# EAGLE library part 4009D (library EW_IC_74_Logic)
Hex Inverter. Category: Gates Manufacturer: Generic
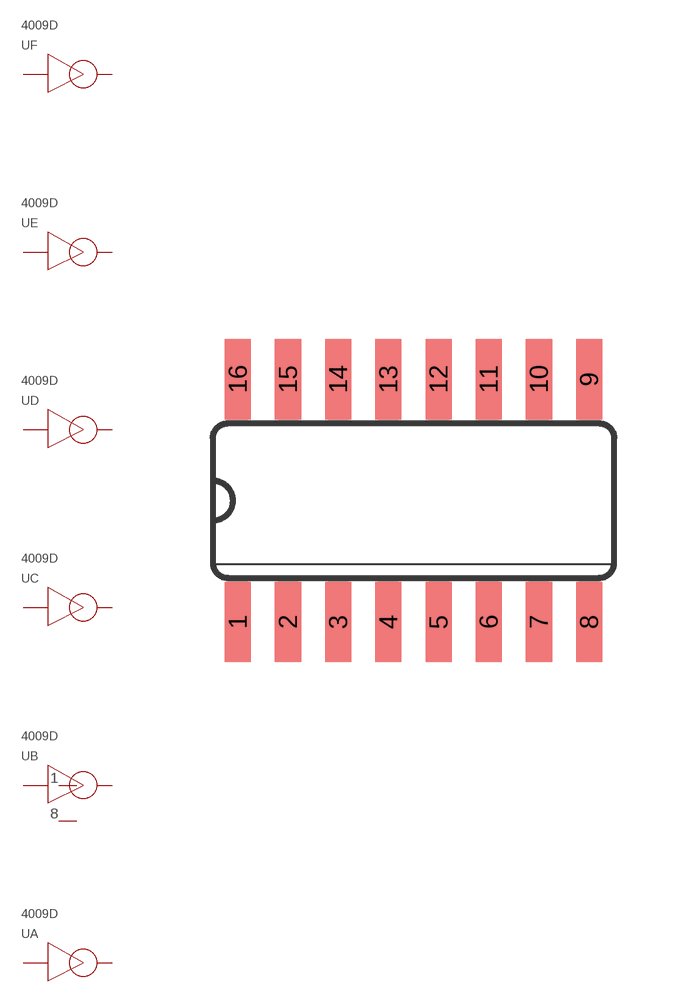
[diagram p338: symbol with the pads of SO16; footprint SO16]

Designator prefix U; gates A=INVERTER B=INVERTER C=INVERTER D=INVERTER E=INVERTER F=INVERTER COM=4009D_COMMON

## 4009D  [SO16]
1  COM:VCC  pwr
2  A:OUT  pwr
3  A:IN  pwr
4  B:OUT  pwr
5  B:IN  pwr
6  C:OUT  pwr
7  C:IN  pwr
8  COM:GND  pwr
9  D:IN  pwr
10  D:OUT  pwr
11  E:IN  pwr
12  E:OUT  pwr
14  F:IN  pwr
15  F:OUT  pwr

## Footprint SO16 (pad centres in mm)
Small Outline package 150 mil
smd 0.66 x 2.032: 1 -4.445,-3.073; 2 -3.175,-3.073; 3 -1.905,-3.073; 4 -0.635,-3.073; 5 0.635,-3.073; 6 1.905,-3.073; 7 3.175,-3.073; 8 4.445,-3.073; 9 4.445,3.073; 10 3.175,3.073; 11 1.905,3.073; 12 0.635,3.073; 13 -0.635,3.073; 14 -1.905,3.073; 15 -3.175,3.073; 16 -4.445,3.073